# Altium footprint library 1N5817.PcbLib: 1 footprints
Each footprint in its own frame and in the unit in brackets; x right, y up, seen from the top. Pads: shape width x height; smd on the part's side, far side on the other; paste and mask are expansions set on the pad; w line width, h text height; cw(c..) or ccw(c..) is an arc to the next point about the centre after c.
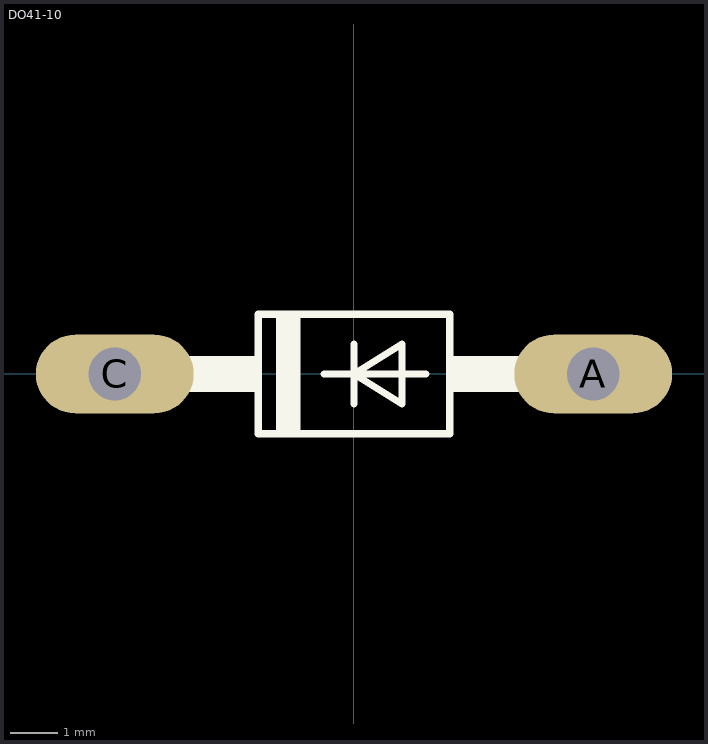
[diagram p0: the footprint, top view; thin cyan lines are the x and y axes]

## DO41-10 [mil]
pads (2):
  oval 132x66 hole 44: A(200,0) C(-200,0)
Top Overlay:
  region: -45,-50 -65,-50 -65,50 -45,50
  region: 155,-15 80,-15 80,15 155,15
  region: -80,-15 -155,-15 -155,15 -80,15
  lines w6: -25,0 0,0 ; 0,-25 0,0 ; 0,25 0,0 ; 60,0 0,0 ; 0,0 40,-25 40,25 0,0 ; -80,-50 80,-50 80,50 -80,50 -80,-50
Mechanical 13:
  lines w30: -200,0 -160,0 ; 160,0 200,0
3D body "step_temp.STEP": height 206, standoff -757, extent -215.5,-53 215.5,53